# EAGLE library part XT55 (library chipcard-siemens)
XT55 Siemens Cellular Engine Source: Siemens / xt55_hardW_v0100.pdf
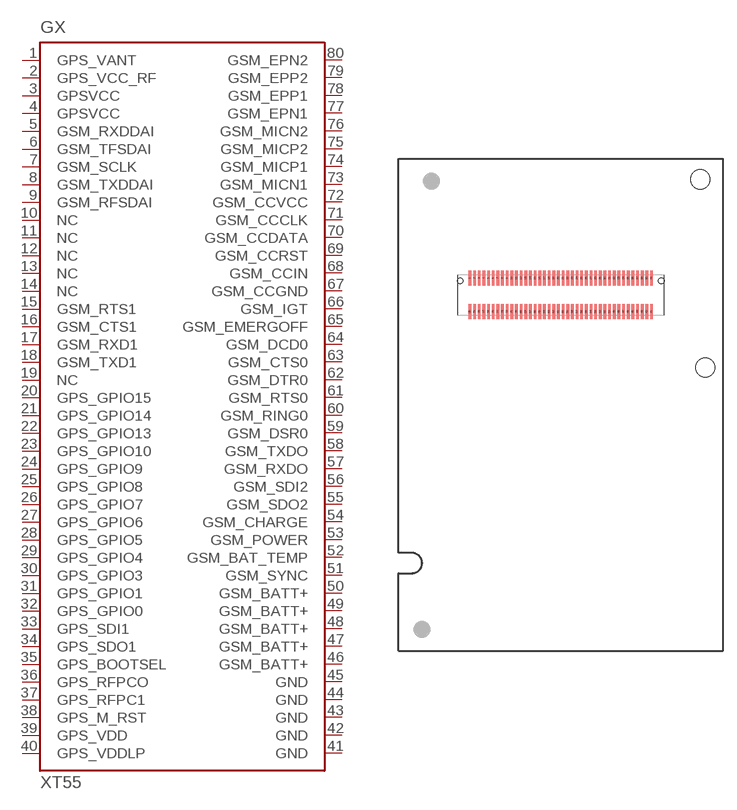
[diagram p2: symbol with the pads of XT55; footprint XT55]

Designator prefix GX

## XT55 (OC_FARNELL: unknown; OC_NEWARK: unknown)  [XT55]
1  GPS_VANT  pas
2  GPS_VCC_RF  pas
3  GPSVCC  pas
4  GPSVCC  pas
5  GSM_RXDDAI  pas
6  GSM_TFSDAI  pas
7  GSM_SCLK  pas
8  GSM_TXDDAI  pas
9  GSM_RFSDAI  pas
10  NC  pas
11  NC  pas
12  NC  pas
13  NC  pas
14  NC  pas
15  GSM_RTS1  pas
16  GSM_CTS1  pas
17  GSM_RXD1  pas
18  GSM_TXD1  pas
19  NC  pas
20  GPS_GPIO15  pas
21  GPS_GPIO14  pas
22  GPS_GPIO13  pas
23  GPS_GPIO10  pas
24  GPS_GPIO9  pas
25  GPS_GPIO8  pas
26  GPS_GPIO7  pas
27  GPS_GPIO6  pas
28  GPS_GPIO5  pas
29  GPS_GPIO4  pas
30  GPS_GPIO3  pas
31  GPS_GPIO1  pas
32  GPS_GPIO0  pas
33  GPS_SDI1  pas
34  GPS_SDO1  pas
35  GPS_BOOTSEL  pas
36  GPS_RFPCO  pas
37  GPS_RFPC1  pas
38  GPS_M_RST  pas
39  GPS_VDD  pas
40  GPS_VDDLP  pas
41  GND  pas
42  GND  pas
43  GND  pas
44  GND  pas
45  GND  pas
46  GSM_BATT+  pas
47  GSM_BATT+  pas
48  GSM_BATT+  pas
49  GSM_BATT+  pas
50  GSM_BATT+  pas
51  GSM_SYNC  pas
52  GSM_BAT_TEMP  pas
53  GSM_POWER  pas
54  GSM_CHARGE  pas
55  GSM_SDO2  pas
56  GSM_SDI2  pas
57  GSM_RXDO  pas
58  GSM_TXDO  pas
59  GSM_DSR0  pas
60  GSM_RING0  pas
61  GSM_RTS0  pas
62  GSM_DTR0  pas
63  GSM_CTS0  pas
64  GSM_DCD0  pas
65  GSM_EMERGOFF  pas
66  GSM_IGT  pas
67  GSM_CCGND  pas
68  GSM_CCIN  pas
69  GSM_CCRST  pas
70  GSM_CCDATA  pas
71  GSM_CCCLK  pas
72  GSM_CCVCC  pas
73  GSM_MICN1  pas
74  GSM_MICP1  pas
75  GSM_MICP2  pas
76  GSM_MICN2  pas
77  GSM_EPN1  pas
78  GSM_EPP1  pas
79  GSM_EPP2  pas
80  GSM_EPN2  pas

## Footprint XT55 (pad centres in mm)
XT55 Siemens Cellular Engine Connector DF12-80 from Hirose Source: Siemens / xt55_hardW_v0100.pdf HIROSE - DF12D(3.0)-#DP-0.5V(81).pdf
smd 0.3 x 1.6: 1 -9.75,1.8; 2 -9.25,1.8; 3 -8.75,1.8; 4 -8.25,1.8; 5 -7.75,1.8; 6 -7.25,1.8; 7 -6.75,1.8; 8 -6.25,1.8; 9 -5.75,1.8; 10 -5.25,1.8; 11 -4.75,1.8; 12 -4.25,1.8; 13 -3.75,1.8; 14 -3.25,1.8; 15 -2.75,1.8; 16 -2.25,1.8; 17 -1.75,1.8; 18 -1.25,1.8; 19 -0.75,1.8; 20 -0.25,1.8; 21 0.25,1.8; 22 0.75,1.8; 23 1.25,1.8; 24 1.75,1.8; 25 2.25,1.8; 26 2.75,1.8; 27 3.25,1.8; 28 3.75,1.8; 29 4.25,1.8; 30 4.75,1.8; 31 5.25,1.8; 32 5.75,1.8; 33 6.25,1.8; 34 6.75,1.8; 35 7.25,1.8; 36 7.75,1.8; 37 8.25,1.8; 38 8.75,1.8; 39 9.25,1.8; 40 9.75,1.8; 41 9.75,-1.8; 42 9.25,-1.8; 43 8.75,-1.8; 44 8.25,-1.8; 45 7.75,-1.8; 46 7.25,-1.8; 47 6.75,-1.8; 48 6.25,-1.8; 49 5.75,-1.8; 50 5.25,-1.8; 51 4.75,-1.8; 52 4.25,-1.8; 53 3.75,-1.8; 54 3.25,-1.8; 55 2.75,-1.8; 56 2.25,-1.8; 57 1.75,-1.8; 58 1.25,-1.8; 59 0.75,-1.8; 60 0.25,-1.8; 61 -0.25,-1.8; 62 -0.75,-1.8; 63 -1.25,-1.8; 64 -1.75,-1.8; 65 -2.25,-1.8; 66 -2.75,-1.8; 67 -3.25,-1.8; 68 -3.75,-1.8; 69 -4.25,-1.8; 70 -4.75,-1.8; 71 -5.25,-1.8; 72 -5.75,-1.8; 73 -6.25,-1.8; 74 -6.75,-1.8; 75 -7.25,-1.8; 76 -7.75,-1.8; 77 -8.25,-1.8; 78 -8.75,-1.8; 79 -9.25,-1.8; 80 -9.75,-1.8
hole 2.05 at 15,12.4
hole 2.05 at 15.5,-7.8
hole 0.6 at -10.8,1.5
hole 0.6 at 10.8,1.5